# EAGLE library part LM2917 (library Shell2013 (1))
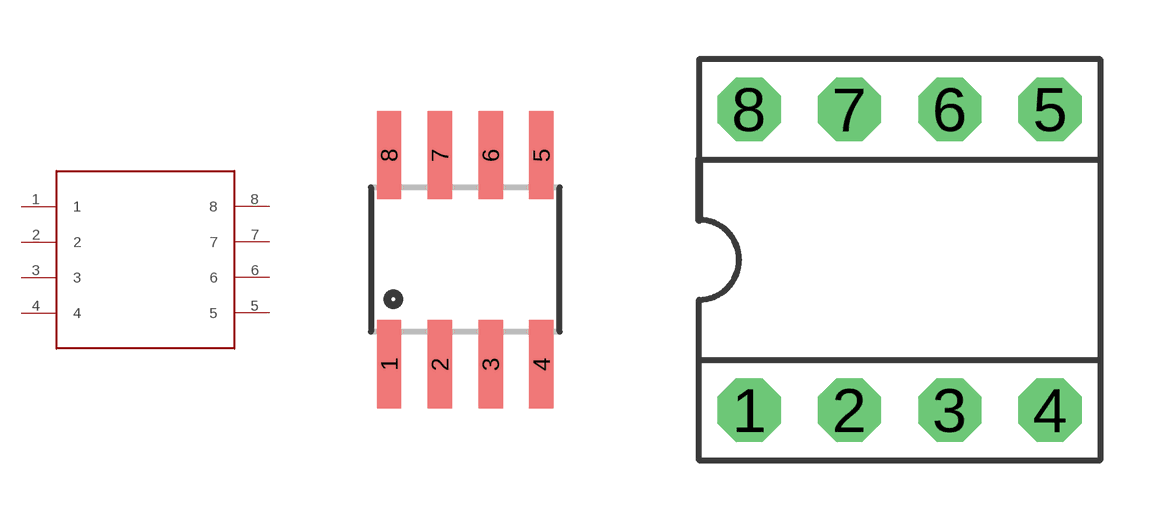
[diagram p2: symbol with the pads of 8-SOIC; footprints 8-SOIC, DIP8]

Designator prefix -

## LM2917  [8-SOIC]
1  1
2  2
3  3
4  4
5  5
6  6
7  7
8  8

## LM2917LM2917-DIP  [DIP8]
Pads as for 8-SOIC

## Footprint 8-SOIC (pad centres in mm)
smd 0.61 x 2.21: 1 0.635,-0.076; 2 1.905,-0.076; 3 3.175,-0.076; 4 4.445,-0.076; 5 4.445,5.156; 6 3.175,5.156; 7 1.905,5.156; 8 0.635,5.156

## Footprint DIP8 (pad centres in mm)
drill 0.813 pad 1.6 octagon: 1 1.27,-3.81; 2 3.81,-3.81; 3 6.35,-3.81; 4 8.89,-3.81; 5 8.89,3.81; 6 6.35,3.81; 7 3.81,3.81; 8 1.27,3.81